# Altium footprint library RedLED.PcbLib: 1 footprints
Each footprint in its own frame and in the unit in brackets; x right, y up, seen from the top. Pads: shape width x height; smd on the part's side, far side on the other; paste and mask are expansions set on the pad; w line width, h text height; cw(c..) or ccw(c..) is an arc to the next point about the centre after c.
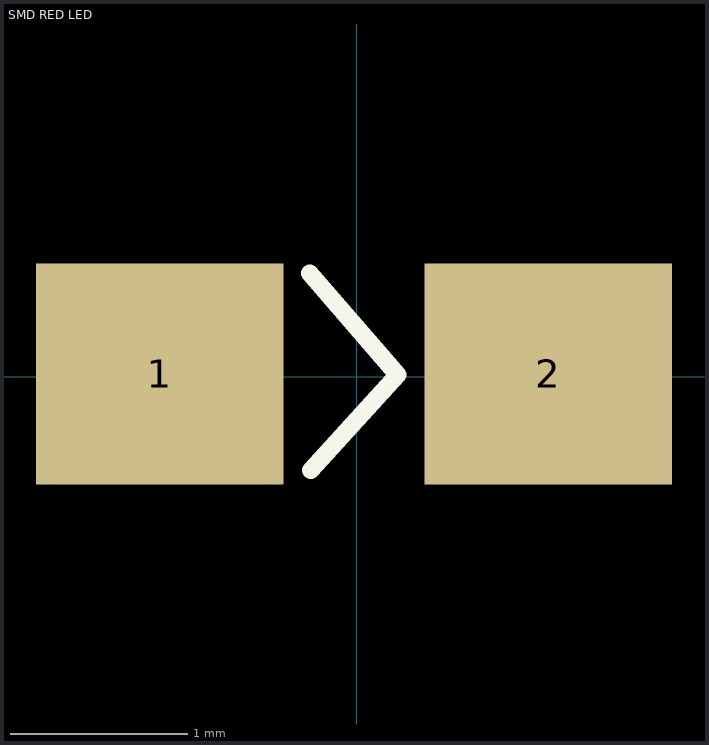
[diagram p0: the footprint, top view; thin cyan lines are the x and y axes]

## SMD RED LED [mm] "SMD RED LED"
pads (2):
  rect 1.4x1.25 smd: 1(-1.116,0.015) 2(1.084,0.015)
Top Overlay:
  lines w0.1: -0.266,0.584 0.23,0.01 -0.261,-0.529
3D body "User Library-led_0805.step": height 1.1, standoff 0, extent -0.985,-0.6 1.035,0.65